# EAGLE library part MC14093BDG (library 3D_MIG_Controller)
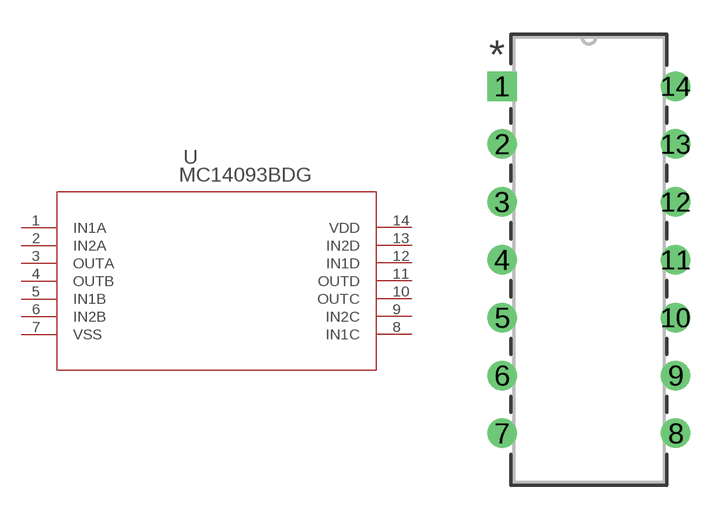
[diagram p62: symbol with the pads of PDIP-14_ONS; footprint PDIP-14_ONS]

Designator prefix U

## MC14093BDG (BUILT_BY: EMA_UL_Team; MANUFACTURER_PART_NUMBER: MC14093BDG; SOURCELIBRARY: ON_Semi_2010-01-01; VENDOR: ON Semiconductor)  [PDIP-14_ONS]
1  IN1A  in
2  IN2A  in
3  OUTA  out
4  OUTB  out
5  IN1B  in
6  IN2B  in
7  VSS  pwr
8  IN1C  in
9  IN2C  in
10  OUTC  out
11  OUTD  out
12  IN1D  in
13  IN2D  in
14  VDD  pwr

## Footprint PDIP-14_ONS (pad centres in mm)
drill 0.787 pad 1.295 square: 1 0,0
drill 0.787 pad 1.295: 2 0,-2.54; 3 0,-5.08; 4 0,-7.62; 5 0,-10.16; 6 0,-12.7; 7 0,-15.24; 8 7.62,-15.24; 9 7.62,-12.7; 10 7.62,-10.16; 11 7.62,-7.62; 12 7.62,-5.08; 13 7.62,-2.54; 14 7.62,0